# EAGLE library part ADAFRUIT938 (library teelsys-0.2)
Monochrome 1.3" 128x64 OLED graphic display Adafruit 938
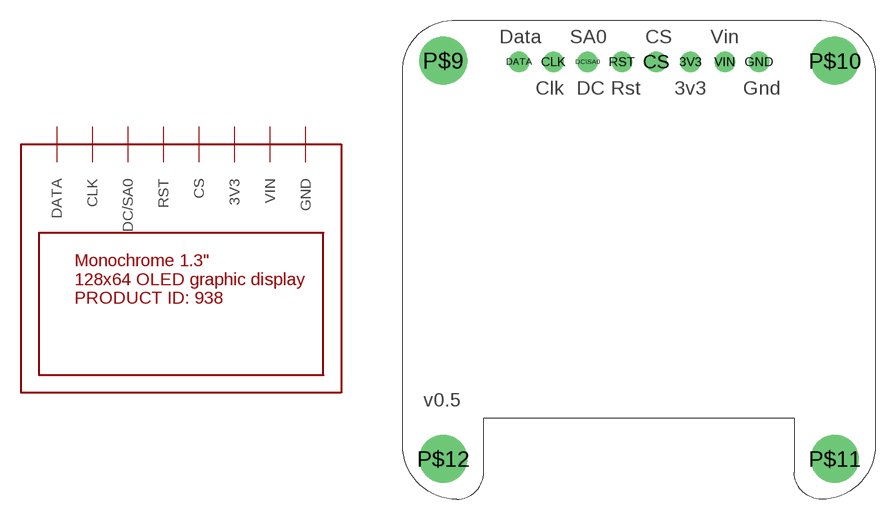
[diagram p10: symbol with the pads of ADAFRUIT938; footprint ADAFRUIT938]

Designator prefix U

## ADAFRUIT938V0.5  [ADAFRUIT938]
3V3  3V3
CLK  CLK
CS  CS
DATA  DATA
DC\SA0  DC/SA0
GND  GND
RST  RST
VIN  VIN

## Footprint ADAFRUIT938 (pad centres in mm)
drill 1.016: 3V3 21.31,32.43; CLK 11.15,32.43; CS 18.77,32.43; DATA 8.61,32.43; DC\SA0 13.69,32.43; GND 26.39,32.43; RST 16.23,32.43; VIN 23.85,32.43
drill 2.54: P$9 3,32.5; P$10 32,32.5; P$11 32,3; P$12 3,3